# Altium footprint library EMW3162-SMT.PcbLib: 1 footprints
Each footprint in its own frame and in the unit in brackets; x right, y up, seen from the top. Pads: shape width x height; smd on the part's side, far side on the other; paste and mask are expansions set on the pad; w line width, h text height; cw(c..) or ccw(c..) is an arc to the next point about the centre after c.
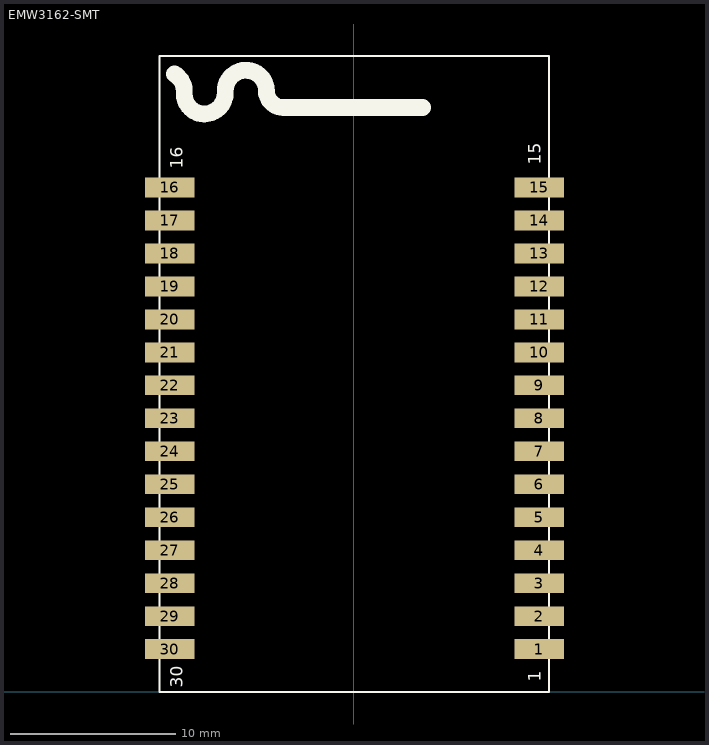
[diagram p0: the footprint, top view; thin cyan lines are the x and y axes]

## EMW3162-SMT [mm]
pads (30):
  rect 3x1.2 smd: 1(11.251,2.589) 2(11.251,4.589) 3(11.251,6.589) 4(11.251,8.589) 5(11.251,10.59) 6(11.251,12.589) 7(11.251,14.589) 8(11.251,16.589) 9(11.251,18.589) 10(11.251,20.589) 11(11.251,22.59) 12(11.251,24.59) 13(11.251,26.589) 14(11.251,28.59) 15(11.251,30.589) 16(-11.149,30.589) 17(-11.149,28.59) 18(-11.149,26.589) 19(-11.149,24.59) 20(-11.149,22.59) 21(-11.149,20.589) 22(-11.149,18.59) 23(-11.149,16.589) 24(-11.149,14.59) 25(-11.149,12.589) 26(-11.149,10.59) 27(-11.149,8.589) 28(-11.149,6.589) 29(-11.149,4.589) 30(-11.149,2.589)
Top Layer:
  lines w0.508: 10.235,30.613 10.244,30.622 10.616,30.622
Top Overlay:
  lines w0.127: -11.774,-0.022 -11.774,38.576 11.848,38.576 11.848,-0.022 -11.774,-0.022
  lines w1.016: -10.869,37.479 cw(c-11.492,36.431) -10.273,36.431 -10.273,36.255 ccw(c-9.07,36.255) -9.916,35.401 ccw(c-9.07,36.255) -9.07,35.052 ccw(c-9.07,36.339) -8.456,35.208 ccw(c-9.07,36.339) -7.783,36.339 -7.783,36.457 cw(c-6.539,36.457) -7.39,37.365 cw(c-6.539,36.457) -6.217,37.659 cw(c-6.539,36.456) -5.474,37.101 cw(c-6.539,36.457) -5.294,36.457 ccw(c-4.278,36.457) -4.278,35.441 4.19,35.441
  text "1" at 11.34,0.613 h0.76
  text "15" at 11.34,31.982 h0.76
  text "16" at -10.377,31.728 h0.76
  text "30" at -10.377,0.232 h0.76
3D body "User Library-MM8430-2610.STEP": height 2.75, standoff 1, extent 3.517,29.806 6.517,32.806
3D body: height 1.2, standoff 0, extent 10.532,6.298 11.131,6.898
3D body: height 1.2, standoff 0, extent 10.532,4.298 11.131,4.898
3D body: height 1.2, standoff 0, extent 10.532,2.298 11.131,2.898
3D body: height 1.2, standoff 0, extent 10.532,14.298 11.131,14.898
3D body: height 1.2, standoff 0, extent 10.532,12.298 11.131,12.898
3D body: height 1.2, standoff 0, extent 10.532,8.298 11.131,8.898
3D body: height 1.2, standoff 0, extent 10.532,10.298 11.131,10.898
3D body: height 1.2, standoff 0, extent 10.532,22.298 11.131,22.898
3D body: height 1.2, standoff 0, extent 10.532,20.298 11.131,20.898
3D body: height 1.2, standoff 0, extent 10.532,16.298 11.131,16.898
3D body: height 1.2, standoff 0, extent 10.532,18.298 11.131,18.898
3D body: height 1.2, standoff 0, extent 10.532,30.298 11.131,30.898
3D body: height 1.2, standoff 0, extent 10.532,28.298 11.131,28.898
3D body: height 1.2, standoff 0, extent 10.532,24.298 11.131,24.898
3D body: height 1.2, standoff 0, extent 10.532,26.298 11.131,26.898
3D body: height 1.2, standoff 0, extent -11.068,6.298 -10.469,6.898
3D body: height 1.2, standoff 0, extent -11.068,4.298 -10.469,4.898
3D body: height 1.2, standoff 0, extent -11.068,2.298 -10.469,2.898
3D body: height 1.2, standoff 0, extent -11.068,14.298 -10.469,14.898
3D body: height 1.2, standoff 0, extent -11.068,12.298 -10.469,12.898
3D body: height 1.2, standoff 0, extent -11.068,8.298 -10.469,8.898
3D body: height 1.2, standoff 0, extent -11.068,10.298 -10.469,10.898
3D body: height 1.2, standoff 0, extent -11.068,22.298 -10.469,22.898
3D body: height 1.2, standoff 0, extent -11.068,20.298 -10.469,20.898
3D body: height 1.2, standoff 0, extent -11.068,16.298 -10.469,16.898
3D body: height 1.2, standoff 0, extent -11.068,18.298 -10.469,18.898
3D body: height 1.2, standoff 0, extent -11.068,26.298 -10.469,26.898
3D body: height 1.2, standoff 0, extent -11.068,24.298 -10.469,24.898
3D body: height 1.2, standoff 0, extent -11.068,28.298 -10.469,28.898
3D body: height 1, standoff 0, extent -11.069,30.299 -10.469,30.898
3D body: height 1, standoff 0, extent -11.798,0 11.824,38.583
3D body: height 1, standoff 0, extent -11.798,29.997 -10.169,31.198
3D body: height 1, standoff 0, extent -11.798,28.003 -10.169,29.204
3D body: height 1, standoff 0, extent -11.798,24.003 -10.169,25.203
3D body: height 1, standoff 0, extent -11.798,25.997 -10.169,27.197
3D body: height 1, standoff 0, extent -11.798,17.996 -10.169,19.196
3D body: height 1, standoff 0, extent -11.798,15.989 -10.169,17.19
3D body: height 1, standoff 0, extent -11.798,20.002 -10.169,21.203
3D body: height 1, standoff 0, extent -11.798,21.996 -10.169,23.197
3D body: height 1, standoff 0, extent -11.798,9.995 -10.169,11.189
3D body: height 1, standoff 0, extent -11.798,8.001 -10.169,9.195
3D body: height 1, standoff 0, extent -11.798,12.002 -10.169,13.195
3D body: height 1, standoff 0, extent -11.798,13.995 -10.169,15.196
3D body: height 1, standoff 0, extent -11.798,1.994 -10.169,3.188
3D body: height 1, standoff 0, extent -11.798,4 -10.169,5.194
3D body: height 1, standoff 0, extent -11.798,5.994 -10.169,7.188
3D body: height 1, standoff 0, extent 10.211,5.994 11.84,7.188
3D body: height 1, standoff 0, extent 10.211,4 11.84,5.194
3D body: height 1, standoff 0, extent 10.211,1.981 11.84,3.175
3D body: height 1, standoff 0, extent 10.211,13.995 11.84,15.189
3D body: height 1, standoff 0, extent 10.211,12.002 11.84,13.195
3D body: height 1, standoff 0, extent 10.211,7.988 11.84,9.182
3D body: height 1, standoff 0, extent 10.211,9.982 11.84,11.176
3D body: height 1, standoff 0, extent 10.211,21.996 11.84,23.19
3D body: height 1, standoff 0, extent 10.211,20.002 11.84,21.196
3D body: height 1, standoff 0, extent 10.211,15.989 11.84,17.183
3D body: height 1, standoff 0, extent 10.211,17.996 11.84,19.19
3D body: height 1, standoff 0, extent 10.211,25.997 11.84,27.191
3D body: height 1, standoff 0, extent 10.211,24.003 11.84,25.197
3D body: height 1, standoff 0, extent 10.211,28.003 11.84,29.197
3D body: height 1, standoff 0, extent 10.211,29.997 11.84,31.191
3D body: height 1, standoff 0.01, extent 11.358,26.132 11.849,27.133
3D body: height 1, standoff 0.01, extent 11.358,28.132 11.849,29.133
3D body: height 1, standoff 0.01, extent 11.358,30.132 11.849,31.133
3D body: height 1, standoff 0.01, extent 11.358,14.132 11.849,15.133
3D body: height 1, standoff 0.01, extent 11.358,16.132 11.849,17.133
3D body: height 1, standoff 0.01, extent 11.358,20.132 11.849,21.133
3D body: height 1, standoff 0.01, extent 11.358,18.132 11.849,19.133
3D body: height 1, standoff 0.01, extent 11.358,24.132 11.849,25.133
3D body: height 1, standoff 0.01, extent 11.358,22.132 11.849,23.133
3D body: height 1, standoff 0.01, extent 11.358,2.132 11.849,3.133
3D body: height 1, standoff 0.01, extent 11.358,4.132 11.849,5.133
3D body: height 1, standoff 0.01, extent 11.358,8.132 11.849,9.133
3D body: height 1, standoff 0.01, extent 11.358,6.132 11.849,7.133
3D body: height 1, standoff 0.01, extent 11.358,12.132 11.849,13.133
3D body: height 1, standoff 0.01, extent 11.358,10.132 11.849,11.133
3D body: height 1, standoff 0.01, extent -11.798,6.107 -11.307,7.107
3D body: height 1, standoff 0.01, extent -11.798,4.106 -11.307,5.107
3D body: height 1, standoff 0.01, extent -11.798,2.107 -11.307,3.107
3D body: height 1, standoff 0.01, extent -11.798,18.107 -11.307,19.107
3D body: height 1, standoff 0.01, extent -11.798,16.106 -11.307,17.107
3D body: height 1, standoff 0.01, extent -11.798,12.106 -11.307,13.107
3D body: height 1, standoff 0.01, extent -11.798,14.107 -11.307,15.107
3D body: height 1, standoff 0.01, extent -11.798,8.106 -11.307,9.107
3D body: height 1, standoff 0.01, extent -11.798,10.107 -11.307,11.107
3D body: height 1, standoff 0.01, extent -11.798,30.107 -11.307,31.107
3D body: height 1, standoff 0.01, extent -11.798,28.106 -11.307,29.107
3D body: height 1, standoff 0.01, extent -11.798,24.106 -11.307,25.107
3D body: height 1, standoff 0.01, extent -11.798,26.107 -11.307,27.107
3D body: height 1, standoff 0.01, extent -11.798,20.106 -11.307,21.107
3D body: height 1, standoff 0.01, extent -11.798,22.107 -11.307,23.107
3D body "SW3dPS-U.FL-R-SMT-1.STEP": height 2.45, standoff 1.19, extent 8.228,34.531 11.228,37.631
3D body: height 3.7, standoff 1, extent -8.89,17.78 6.477,32.766
3D body: height 0.1, standoff 0, extent -4.811,34.958 -3.796,35.974
3D body: height 0.1, standoff 0, extent -5.746,35.594 -4.731,36.61
3D body: height 0.1, standoff 0, extent -5.677,35.464 -4.661,36.48
3D body: height 0.1, standoff 0, extent -5.546,35.274 -4.531,36.29
3D body: height 0.1, standoff 0, extent -5.446,35.184 -4.431,36.2
3D body: height 0.1, standoff 0, extent -5.287,35.094 -4.271,36.11
3D body: height 0.1, standoff 0, extent -5.146,35.034 -4.131,36.05
3D body: height 0.1, standoff 0, extent -5.017,34.974 -4.001,35.99
3D body: height 0.1, standoff 0, extent -5.816,35.814 -4.801,36.83
3D body: height 0.1, standoff 0, extent -5.827,35.974 -4.812,36.99
3D body: height 0.1, standoff 0, extent -5.826,36.114 -4.811,37.13
3D body: height 0.1, standoff 0, extent -5.846,36.224 -4.831,37.24
3D body: height 0.1, standoff 0, extent -5.856,36.294 -4.841,37.31
3D body: height 0.1, standoff 0, extent -5.907,36.444 -4.891,37.46
3D body: height 0.1, standoff 0, extent -6.007,36.619 -4.991,37.634
3D body: height 0.1, standoff 0, extent -6.116,36.764 -5.101,37.78
3D body: height 0.1, standoff 0, extent -6.216,36.874 -5.201,37.89
3D body: height 0.1, standoff 0, extent -6.287,36.944 -5.271,37.96
3D body: height 0.1, standoff 0, extent -6.337,36.974 -5.321,37.99
3D body: height 0.1, standoff 0, extent -6.406,37.024 -5.391,38.04
3D body: height 0.1, standoff 0, extent -6.426,37.044 -5.411,38.06
3D body: height 0.1, standoff 0, extent -6.547,37.104 -5.531,38.12
3D body: height 1.01, standoff 0, extent -6.647,37.144 -5.631,38.16
3D body: height 0.1, standoff 0, extent -6.776,37.184 -5.761,38.2
3D body: height 0.1, standoff 0, extent -6.927,37.204 -5.911,38.22
3D body: height 0.1, standoff 0, extent -7.076,37.214 -6.061,38.23
3D body: height 0.1, standoff 0, extent -7.207,37.204 -6.191,38.22
3D body: height 0.1, standoff 0, extent -7.317,37.184 -6.301,38.2
3D body: height 0.1, standoff 0, extent -7.507,37.124 -6.491,38.14
3D body: height 0.1, standoff 0, extent -7.696,37.044 -6.681,38.06
3D body: height 0.1, standoff 0, extent -7.837,36.944 -6.821,37.96
3D body: height 0.1, standoff 0, extent -7.966,36.824 -6.951,37.84
3D body: height 0.1, standoff 0, extent -8.066,36.704 -7.051,37.72
3D body: height 0.1, standoff 0, extent -8.147,36.594 -7.131,37.61
3D body: height 0.1, standoff 0, extent -8.207,36.474 -7.191,37.49
3D body: height 0.1, standoff 0, extent -8.267,36.324 -7.251,37.34
3D body: height 0.1, standoff 0, extent -8.296,36.154 -7.281,37.17
3D body: height 0.1, standoff 0, extent -8.306,36.034 -7.291,37.05
3D body: height 0.1, standoff 0, extent -8.306,35.904 -7.291,36.92
3D body: height 0.1, standoff 0, extent -8.316,35.714 -7.301,36.73
3D body: height 0.1, standoff 0, extent -8.346,35.544 -7.331,36.56
3D body: height 0.1, standoff 0, extent -8.386,35.414 -7.371,36.43
3D body: height 0.1, standoff 0, extent -8.436,35.304 -7.421,36.32
3D body: height 0.1, standoff 0, extent -8.527,35.134 -7.511,36.15
3D body: height 0.1, standoff 0, extent -8.636,35.004 -7.621,36.02
3D body: height 0.1, standoff 0, extent -8.756,34.884 -7.741,35.9
3D body: height 0.1, standoff 0, extent -8.877,34.794 -7.861,35.81
3D body: height 0.1, standoff 0, extent -8.996,34.724 -7.981,35.74
3D body: height 0.1, standoff 0, extent -9.127,34.664 -8.111,35.68
3D body: height 0.1, standoff 0, extent -9.286,34.614 -8.271,35.63
3D body: height 0.1, standoff 0, extent -9.406,34.594 -8.391,35.61
3D body: height 0.1, standoff 0, extent -9.497,34.584 -8.481,35.6
3D body: height 0.1, standoff 0, extent -9.636,34.584 -8.621,35.6
3D body: height 0.1, standoff 0, extent -9.747,34.584 -8.731,35.6
3D body: height 0.1, standoff 0, extent -9.876,34.614 -8.861,35.63
3D body: height 0.1, standoff 0, extent -10.006,34.654 -8.991,35.67
3D body: height 0.1, standoff 0, extent -10.186,34.734 -9.171,35.75
3D body: height 0.1, standoff 0, extent -10.316,34.824 -9.301,35.84
3D body: height 0.1, standoff 0, extent -10.506,34.984 -9.491,36
3D body: height 0.1, standoff 0, extent -10.596,35.104 -9.581,36.12
3D body: height 0.1, standoff 0, extent -10.677,35.254 -9.661,36.27
3D body: height 0.1, standoff 0, extent -10.737,35.374 -9.721,36.39
3D body: height 0.1, standoff 0, extent -10.767,35.484 -9.751,36.5
3D body: height 0.1, standoff 0, extent -10.787,35.614 -9.771,36.63
3D body: height 0.1, standoff 0, extent -10.797,35.724 -9.781,36.74
3D body: height 0.1, standoff 0, extent -10.797,35.864 -9.781,36.88
3D body: height 0.1, standoff 0, extent -10.797,36.034 -9.781,37.05
3D body: height 0.1, standoff 0, extent -10.816,36.114 -9.801,37.13
3D body: height 0.1, standoff 0, extent -10.836,36.234 -9.821,37.25
3D body: height 0.1, standoff 0, extent -10.876,36.384 -9.861,37.4
3D body: height 0.1, standoff 0, extent -10.926,36.484 -9.911,37.5
3D body: height 0.1, standoff 0, extent -10.976,36.574 -9.961,37.59
3D body: height 0.1, standoff 0, extent -11.047,36.684 -10.031,37.7
3D body: height 0.1, standoff 0, extent -11.387,36.984 -10.371,38
3D body: height 0.1, standoff 0, extent -11.256,36.894 -10.241,37.91
3D body: height 0.1, standoff 0, extent -11.156,36.804 -10.141,37.82
3D body: height 1, standoff 0, extent -4.434,34.954 4.191,35.97
3D body: height 1, standoff 0, extent 3.594,34.844 4.94,36.19
3D body: height 1, standoff 0, extent 3.241,34.49 5.294,36.544
3D body: height 0.99, standoff 0, extent -11.799,32.972 5.351,38.583
3D body: height 2.5, standoff 1, extent -1.46,3.477 6.541,11.255